# Altium schematic symbol library 691 382 030 0xx.SchLib: 6 symbols
Pins are listed as number, name and electrical type; pins without a type are passive.

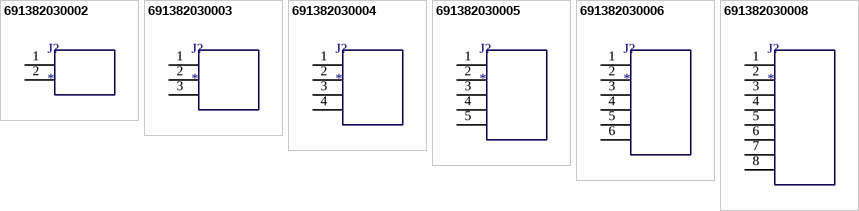
[diagram p0: symbols 691382030002 to 691382030008]

## 691382030002
designator J?
WR-TBL Terminal block - serie382; Manufacturer: Würth Elektronik eiSos GmbH; partNo: 691382030002; ComponentLink1 Description: Manufacturer; ComponentLink2 Description: Datasheet; ComponentLink1URL: http://www.we-online.de; ComponentLink2URL: http://katalog.we-online.de/em/datasheet/6913820300xx.pdf; Created by: Karrer Zheng; Created Date: 10/9/2014
footprint 691382030002
pins: 1  , 2  

## 691382030003
designator J?
WR-TBL Terminal block - serie382; Manufacturer: Würth Elektronik eiSos GmbH; partNo: 691382030003; ComponentLink1 Description: Manufacturer; ComponentLink2 Description: Datasheet; ComponentLink1URL: http://www.we-online.de; ComponentLink2URL: http://katalog.we-online.de/em/datasheet/6913820300xx.pdf; Created by: Karrer Zheng; Created Date: 10/9/2014
footprint 691382030003
pins: 1  , 2  , 3  

## 691382030004
designator J?
WR-TBL Terminal block - serie382; Manufacturer: Würth Elektronik eiSos GmbH; partNo: 691382030004; ComponentLink1 Description: Manufacturer; ComponentLink2 Description: Datasheet; ComponentLink1URL: http://www.we-online.de; ComponentLink2URL: http://katalog.we-online.de/em/datasheet/6913820300xx.pdf; Created by: Karrer Zheng; Created Date: 10/9/2014
footprint 691382030004
pins: 1  , 2  , 3  , 4  

## 691382030005
designator J?
WR-TBL Terminal block - serie382; Manufacturer: Würth Elektronik eiSos GmbH; partNo: 691382030005; ComponentLink1 Description: Manufacturer; ComponentLink2 Description: Datasheet; ComponentLink1URL: http://www.we-online.de; ComponentLink2URL: http://katalog.we-online.de/em/datasheet/6913820300xx.pdf; Created by: Karrer Zheng; Created Date: 10/9/2014
footprint 691382030005
pins: 1  , 2  , 3  , 4  , 5  

## 691382030006
designator J?
WR-TBL Terminal block - serie382; Manufacturer: Würth Elektronik eiSos GmbH; partNo: 691382030006; ComponentLink1 Description: Manufacturer; ComponentLink2 Description: Datasheet; ComponentLink1URL: http://www.we-online.de; ComponentLink2URL: http://katalog.we-online.de/em/datasheet/6913820300xx.pdf; Created by: Karrer Zheng; Created Date: 10/9/2014
footprint 691382030006
pins: 1  , 2  , 3  , 4  , 5  , 6  

## 691382030008
designator J?
WR-TBL Terminal block - serie382; Manufacturer: Würth Elektronik eiSos GmbH; partNo: 691382030008; ComponentLink1 Description: Manufacturer; ComponentLink2 Description: Datasheet; ComponentLink1URL: http://www.we-online.de; ComponentLink2URL: http://katalog.we-online.de/em/datasheet/6913820300xx.pdf; Created by: Karrer Zheng; Created Date: 10/9/2014
footprint 691382030008
pins: 1  , 2  , 3  , 4  , 5  , 6  , 7  , 8  